# Altium integrated library Linear Technology Power Management System Supervisor, Monitor and Control.IntLib: 1611 symbols (part 14 of 100)
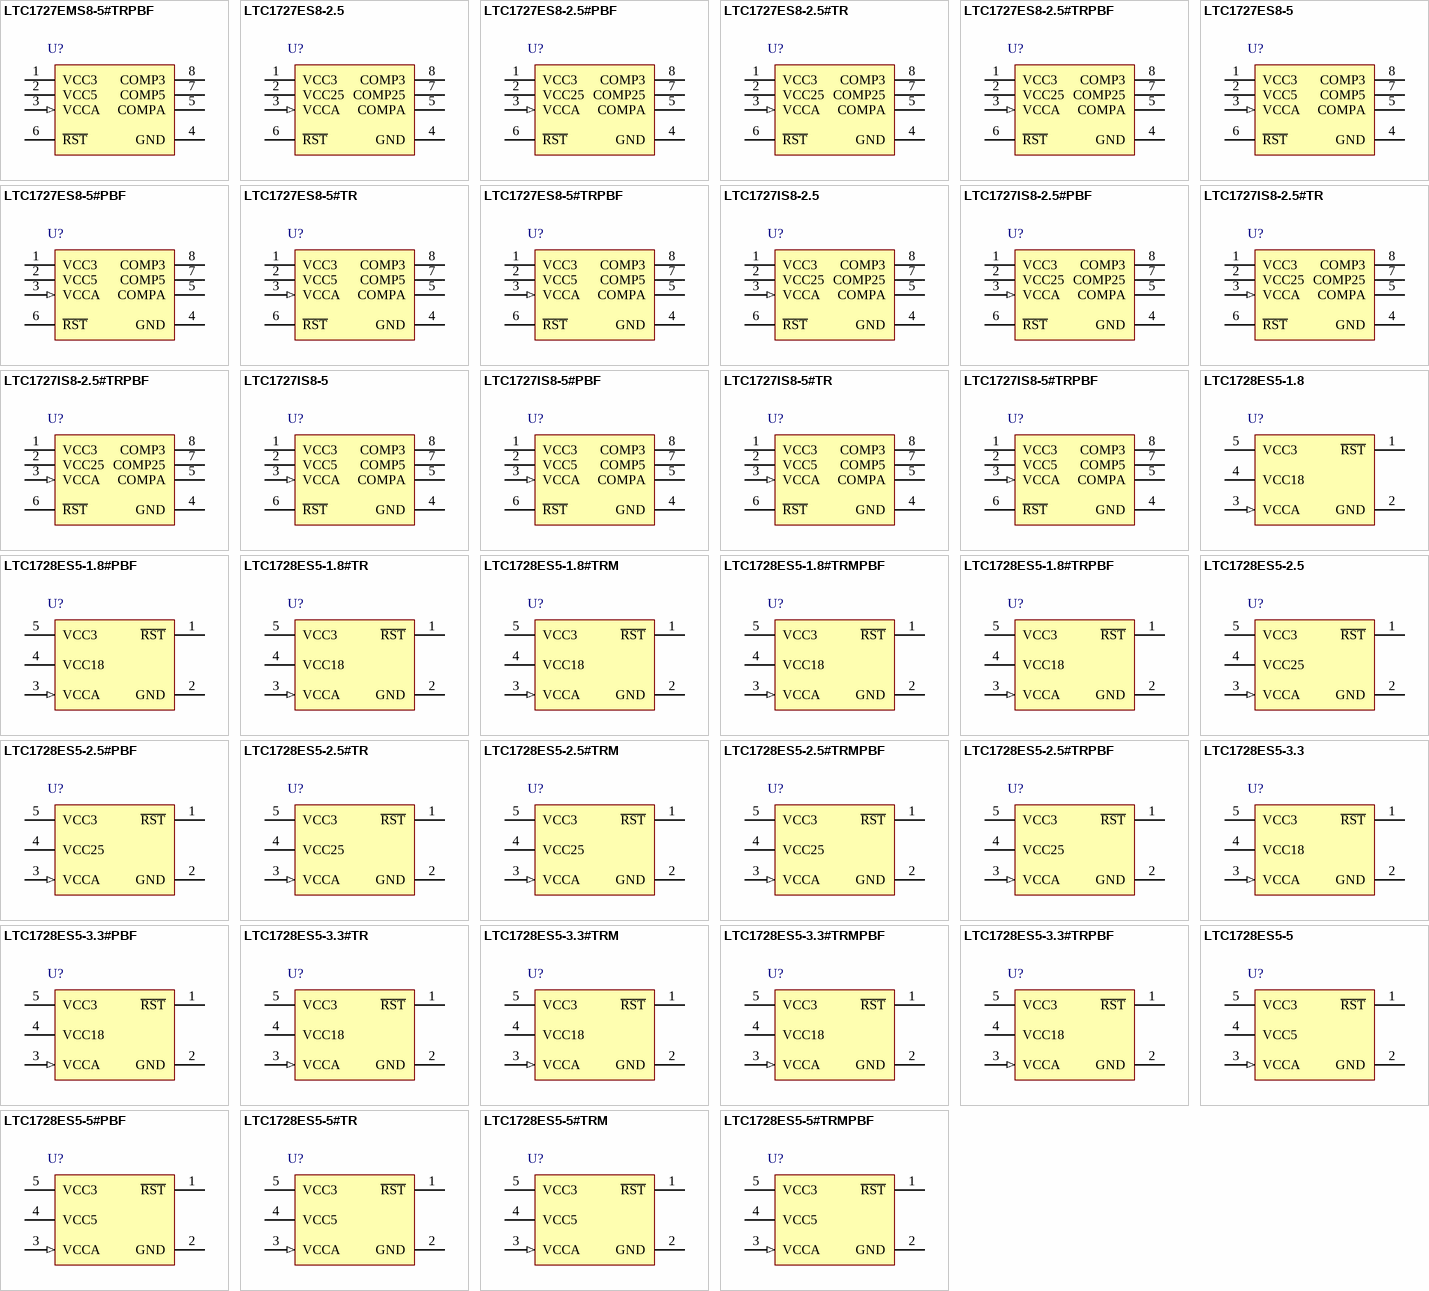
[diagram p58: symbols LTC1727EMS8-5#TRPBF to LTC1728ES5-5#TRMPBF]

## LTC1728ES5-1.8#TR
designator U?
Micropower Precision Triple Supply Monitor, 5-pin SOT23 (S5-5), -40 to 85 degC, Tape and Reel; Manufacturer: Linear Technology; PartNumber: LTC1728ES5-1.8#TR; Number of Supplies(#): 3; DatasheetVersion: Rev. B; PackageVersion: Aug-07; PackageReference: S5-5; PackageDescription: 5-Pin Plastic SOT-23, Body 1.625 x 2.90 mm, Pitch 0.95 mm; Supplier 1: Digi-Key; Supplier Part Number 1: LTC1728ES5-1.8#TR-ND; Packing: Tape and Reel; RoHS: FALSE; Mounting Technology: Surface Mount; ComponentLink1Description: Manufacturer URL; ComponentLink1URL: http://www.linear.com/; ComponentLink2Description: Datasheet; ComponentLink2URL: http://cds.linear.com/docs/en/datasheet/17278fb.pdf; ComponentLink3Description: Package Specification; ComponentLink3URL: http://cds.linear.com/docs/en/datasheet/17278fb.pdf
footprint LT-S5-5-SOT-23_N (SOT23, 5-Leads, Body 3x1.75mm, Pitch 0.95mm, IPC Medium Density)
footprint LT-S5-5-SOT-23_L (SOT23, 5-Leads, Body 3x1.75mm, Pitch 0.95mm, IPC High Density)
footprint LT-S5-5-SOT-23_M (SOT23, 5-Leads, Body 3x1.75mm, Pitch 0.95mm, IPC Low Density)
pins: 1 ~{RST} (oc) "Reset Logic Output. Active low, opendrain logic output with weak pull-up to VCC3. Can be pulled up greater than VCC3 when interfacing to 5V logic. Asserted when one or all of the supplies are below trip thresholds and held (See Datasheet)", 2 GND (power) "Ground.", 3 VCCA (in) "1V Sense, High Impedance Input. If unused,it can be tied to either VCC3 or VCC5/VCC25/VCC18.", 4 VCC18 (power) "1.8V Sense Input and Power Supply Pin. This pin is used on the LTC1728-1.8/LTC1728?3.3 to provide power to the part when the voltage on VCC18 is greater than the voltage on VCC3. Bypass to ground with a >= 0.1uF ceramic (See Datasheet)", 5 VCC3 (power) "3.3V Sense Input and Power Supply Pin. (3V Sense Input and Power Supply Pin for LTC1728-1.8.) This pin provides power to the part when the voltage on VCC3 is greater than the voltage on VCC5/VCC25/VCC18.Bypass to ground with (See Datasheet)"

## LTC1728ES5-1.8#TRM
designator U?
Micropower Precision Triple Supply Monitor, 5-pin SOT23 (S5-5), -40 to 85 degC, Mini Tape and Reel; Manufacturer: Linear Technology; PartNumber: LTC1728ES5-1.8#TRM; Number of Supplies(#): 3; DatasheetVersion: Rev. B; PackageVersion: Aug-07; PackageReference: S5-5; PackageDescription: 5-Pin Plastic SOT-23, Body 1.625 x 2.90 mm, Pitch 0.95 mm; Supplier 1: Digi-Key; Supplier Part Number 1: LTC1728ES5-1.8#TRM-ND; Packing: Mini Tape and Reel; RoHS: FALSE; Mounting Technology: Surface Mount; ComponentLink1Description: Manufacturer URL; ComponentLink1URL: http://www.linear.com/; ComponentLink2Description: Datasheet; ComponentLink2URL: http://cds.linear.com/docs/en/datasheet/17278fb.pdf; ComponentLink3Description: Package Specification; ComponentLink3URL: http://cds.linear.com/docs/en/datasheet/17278fb.pdf
footprint LT-S5-5-SOT-23_N (SOT23, 5-Leads, Body 3x1.75mm, Pitch 0.95mm, IPC Medium Density)
footprint LT-S5-5-SOT-23_L (SOT23, 5-Leads, Body 3x1.75mm, Pitch 0.95mm, IPC High Density)
footprint LT-S5-5-SOT-23_M (SOT23, 5-Leads, Body 3x1.75mm, Pitch 0.95mm, IPC Low Density)
pins: 1 ~{RST} (oc) "Reset Logic Output. Active low, opendrain logic output with weak pull-up to VCC3. Can be pulled up greater than VCC3 when interfacing to 5V logic. Asserted when one or all of the supplies are below trip thresholds and held (See Datasheet)", 2 GND (power) "Ground.", 3 VCCA (in) "1V Sense, High Impedance Input. If unused,it can be tied to either VCC3 or VCC5/VCC25/VCC18.", 4 VCC18 (power) "1.8V Sense Input and Power Supply Pin. This pin is used on the LTC1728-1.8/LTC1728?3.3 to provide power to the part when the voltage on VCC18 is greater than the voltage on VCC3. Bypass to ground with a >= 0.1uF ceramic (See Datasheet)", 5 VCC3 (power) "3.3V Sense Input and Power Supply Pin. (3V Sense Input and Power Supply Pin for LTC1728-1.8.) This pin provides power to the part when the voltage on VCC3 is greater than the voltage on VCC5/VCC25/VCC18.Bypass to ground with (See Datasheet)"

## LTC1728ES5-1.8#TRMPBF
designator U?
Micropower Precision Triple Supply Monitor, 5-pin SOT23 (S5-5), -40 to 85 degC, Pb-Free, Mini Tape and Reel; Manufacturer: Linear Technology; PartNumber: LTC1728ES5-1.8#TRMPBF; Number of Supplies(#): 3; DatasheetVersion: Rev. B; PackageVersion: Aug-07; PackageReference: S5-5; PackageDescription: 5-Pin Plastic SOT-23, Body 1.625 x 2.90 mm, Pitch 0.95 mm; Supplier 1: Digi-Key; Supplier Part Number 1: LTC1728ES5-1.8#TRMPBFTR-ND; Supplier 2: Digi-Key; Supplier Part Number 2: LTC1728ES5-1.8#TRMPBFCT-ND; Supplier 3: Digi-Key; Supplier Part Number 3: LTC1728ES5-1.8#TRMPBFDKR-ND; Packing: Mini Tape and Reel; RoHS: TRUE; Mounting Technology: Surface Mount; ComponentLink1Description: Manufacturer URL; ComponentLink1URL: http://www.linear.com/; ComponentLink2Description: Datasheet; ComponentLink2URL: http://cds.linear.com/docs/en/datasheet/17278fb.pdf; ComponentLink3Description: Package Specification; ComponentLink3URL: http://cds.linear.com/docs/en/datasheet/17278fb.pdf
footprint LT-S5-5-SOT-23_N (SOT23, 5-Leads, Body 3x1.75mm, Pitch 0.95mm, IPC Medium Density)
footprint LT-S5-5-SOT-23_L (SOT23, 5-Leads, Body 3x1.75mm, Pitch 0.95mm, IPC High Density)
footprint LT-S5-5-SOT-23_M (SOT23, 5-Leads, Body 3x1.75mm, Pitch 0.95mm, IPC Low Density)
pins: 1 ~{RST} (oc) "Reset Logic Output. Active low, opendrain logic output with weak pull-up to VCC3. Can be pulled up greater than VCC3 when interfacing to 5V logic. Asserted when one or all of the supplies are below trip thresholds and held (See Datasheet)", 2 GND (power) "Ground.", 3 VCCA (in) "1V Sense, High Impedance Input. If unused,it can be tied to either VCC3 or VCC5/VCC25/VCC18.", 4 VCC18 (power) "1.8V Sense Input and Power Supply Pin. This pin is used on the LTC1728-1.8/LTC1728?3.3 to provide power to the part when the voltage on VCC18 is greater than the voltage on VCC3. Bypass to ground with a >= 0.1uF ceramic (See Datasheet)", 5 VCC3 (power) "3.3V Sense Input and Power Supply Pin. (3V Sense Input and Power Supply Pin for LTC1728-1.8.) This pin provides power to the part when the voltage on VCC3 is greater than the voltage on VCC5/VCC25/VCC18.Bypass to ground with (See Datasheet)"

## LTC1728ES5-1.8#TRPBF
designator U?
Micropower Precision Triple Supply Monitor, 5-pin SOT23 (S5-5), -40 to 85 degC, Pb-Free, Tape and Reel; Manufacturer: Linear Technology; PartNumber: LTC1728ES5-1.8#TRPBF; Number of Supplies(#): 3; DatasheetVersion: Rev. B; PackageVersion: Aug-07; PackageReference: S5-5; PackageDescription: 5-Pin Plastic SOT-23, Body 1.625 x 2.90 mm, Pitch 0.95 mm; Supplier 1: Digi-Key; Supplier Part Number 1: LTC1728ES5-1.8#TRPBF-ND; Packing: Tape and Reel; RoHS: TRUE; Mounting Technology: Surface Mount; ComponentLink1Description: Manufacturer URL; ComponentLink1URL: http://www.linear.com/; ComponentLink2Description: Datasheet; ComponentLink2URL: http://cds.linear.com/docs/en/datasheet/17278fb.pdf; ComponentLink3Description: Package Specification; ComponentLink3URL: http://cds.linear.com/docs/en/datasheet/17278fb.pdf
footprint LT-S5-5-SOT-23_N (SOT23, 5-Leads, Body 3x1.75mm, Pitch 0.95mm, IPC Medium Density)
footprint LT-S5-5-SOT-23_L (SOT23, 5-Leads, Body 3x1.75mm, Pitch 0.95mm, IPC High Density)
footprint LT-S5-5-SOT-23_M (SOT23, 5-Leads, Body 3x1.75mm, Pitch 0.95mm, IPC Low Density)
pins: 1 ~{RST} (oc) "Reset Logic Output. Active low, opendrain logic output with weak pull-up to VCC3. Can be pulled up greater than VCC3 when interfacing to 5V logic. Asserted when one or all of the supplies are below trip thresholds and held (See Datasheet)", 2 GND (power) "Ground.", 3 VCCA (in) "1V Sense, High Impedance Input. If unused,it can be tied to either VCC3 or VCC5/VCC25/VCC18.", 4 VCC18 (power) "1.8V Sense Input and Power Supply Pin. This pin is used on the LTC1728-1.8/LTC1728?3.3 to provide power to the part when the voltage on VCC18 is greater than the voltage on VCC3. Bypass to ground with a >= 0.1uF ceramic (See Datasheet)", 5 VCC3 (power) "3.3V Sense Input and Power Supply Pin. (3V Sense Input and Power Supply Pin for LTC1728-1.8.) This pin provides power to the part when the voltage on VCC3 is greater than the voltage on VCC5/VCC25/VCC18.Bypass to ground with (See Datasheet)"

## LTC1728ES5-2.5
designator U?
Micropower Precision Triple Supply Monitor, 5-pin SOT23 (S5-5), -40 to 85 degC; Manufacturer: Linear Technology; PartNumber: LTC1728ES5-2.5; Number of Supplies(#): 3; DatasheetVersion: Rev. B; PackageVersion: Aug-07; PackageReference: S5-5; PackageDescription: 5-Pin Plastic SOT-23, Body 1.625 x 2.90 mm, Pitch 0.95 mm; RoHS: FALSE; Mounting Technology: Surface Mount; ComponentLink1Description: Manufacturer URL; ComponentLink1URL: http://www.linear.com/; ComponentLink2Description: Datasheet; ComponentLink2URL: http://cds.linear.com/docs/en/datasheet/17278fb.pdf; ComponentLink3Description: Package Specification; ComponentLink3URL: http://cds.linear.com/docs/en/datasheet/17278fb.pdf
footprint LT-S5-5-SOT-23_N (SOT23, 5-Leads, Body 3x1.75mm, Pitch 0.95mm, IPC Medium Density)
footprint LT-S5-5-SOT-23_L (SOT23, 5-Leads, Body 3x1.75mm, Pitch 0.95mm, IPC High Density)
footprint LT-S5-5-SOT-23_M (SOT23, 5-Leads, Body 3x1.75mm, Pitch 0.95mm, IPC Low Density)
pins: 1 ~{RST} (oc) "Reset Logic Output. Active low, opendrain logic output with weak pull-up to VCC3. Can be pulled up greater than VCC3 when interfacing to 5V logic. Asserted when one or all of the supplies are below trip thresholds and held (See Datasheet)", 2 GND (power) "Ground.", 3 VCCA (in) "1V Sense, High Impedance Input. If unused,it can be tied to either VCC3 or VCC5/VCC25/VCC18.", 4 VCC25 (power) "2.5V Sense Input and Power Supply Pin. This pin is used on the LTC1727-2.5/LTC1728-2.5 to provide power to the part when the voltage on VCC25 is greater than the voltage on VCC3. Bypass to ground with a >=0.1uF ceramic (See Datasheet)", 5 VCC3 (power) "3.3V Sense Input and Power Supply Pin. (3V Sense Input and Power Supply Pin for LTC1728-1.8.) This pin provides power to the part when the voltage on VCC3 is greater than the voltage on VCC5/VCC25/VCC18.Bypass to ground with (See Datasheet)"

## LTC1728ES5-2.5#PBF
designator U?
Micropower Precision Triple Supply Monitor, 5-pin SOT23 (S5-5), -40 to 85 degC, Pb-Free; Manufacturer: Linear Technology; PartNumber: LTC1728ES5-2.5#PBF; Number of Supplies(#): 3; DatasheetVersion: Rev. B; PackageVersion: Aug-07; PackageReference: S5-5; PackageDescription: 5-Pin Plastic SOT-23, Body 1.625 x 2.90 mm, Pitch 0.95 mm; Supplier 1: Farnell; Supplier Part Number 1: 2102603; Supplier 2: Newark; Supplier Part Number 2: 79R1605; RoHS: TRUE; Mounting Technology: Surface Mount; ComponentLink1Description: Manufacturer URL; ComponentLink1URL: http://www.linear.com/; ComponentLink2Description: Datasheet; ComponentLink2URL: http://cds.linear.com/docs/en/datasheet/17278fb.pdf; ComponentLink3Description: Package Specification; ComponentLink3URL: http://cds.linear.com/docs/en/datasheet/17278fb.pdf
footprint LT-S5-5-SOT-23_N (SOT23, 5-Leads, Body 3x1.75mm, Pitch 0.95mm, IPC Medium Density)
footprint LT-S5-5-SOT-23_L (SOT23, 5-Leads, Body 3x1.75mm, Pitch 0.95mm, IPC High Density)
footprint LT-S5-5-SOT-23_M (SOT23, 5-Leads, Body 3x1.75mm, Pitch 0.95mm, IPC Low Density)
pins: 1 ~{RST} (oc) "Reset Logic Output. Active low, opendrain logic output with weak pull-up to VCC3. Can be pulled up greater than VCC3 when interfacing to 5V logic. Asserted when one or all of the supplies are below trip thresholds and held (See Datasheet)", 2 GND (power) "Ground.", 3 VCCA (in) "1V Sense, High Impedance Input. If unused,it can be tied to either VCC3 or VCC5/VCC25/VCC18.", 4 VCC25 (power) "2.5V Sense Input and Power Supply Pin. This pin is used on the LTC1727-2.5/LTC1728-2.5 to provide power to the part when the voltage on VCC25 is greater than the voltage on VCC3. Bypass to ground with a >=0.1uF ceramic (See Datasheet)", 5 VCC3 (power) "3.3V Sense Input and Power Supply Pin. (3V Sense Input and Power Supply Pin for LTC1728-1.8.) This pin provides power to the part when the voltage on VCC3 is greater than the voltage on VCC5/VCC25/VCC18.Bypass to ground with (See Datasheet)"

## LTC1728ES5-2.5#TR
designator U?
Micropower Precision Triple Supply Monitor, 5-pin SOT23 (S5-5), -40 to 85 degC, Tape and Reel; Manufacturer: Linear Technology; PartNumber: LTC1728ES5-2.5#TR; Number of Supplies(#): 3; DatasheetVersion: Rev. B; PackageVersion: Aug-07; PackageReference: S5-5; PackageDescription: 5-Pin Plastic SOT-23, Body 1.625 x 2.90 mm, Pitch 0.95 mm; Supplier 1: Digi-Key; Supplier Part Number 1: LTC1728ES5-2.5#TR-ND; Packing: Tape and Reel; RoHS: FALSE; Mounting Technology: Surface Mount; ComponentLink1Description: Manufacturer URL; ComponentLink1URL: http://www.linear.com/; ComponentLink2Description: Datasheet; ComponentLink2URL: http://cds.linear.com/docs/en/datasheet/17278fb.pdf; ComponentLink3Description: Package Specification; ComponentLink3URL: http://cds.linear.com/docs/en/datasheet/17278fb.pdf
footprint LT-S5-5-SOT-23_N (SOT23, 5-Leads, Body 3x1.75mm, Pitch 0.95mm, IPC Medium Density)
footprint LT-S5-5-SOT-23_L (SOT23, 5-Leads, Body 3x1.75mm, Pitch 0.95mm, IPC High Density)
footprint LT-S5-5-SOT-23_M (SOT23, 5-Leads, Body 3x1.75mm, Pitch 0.95mm, IPC Low Density)
pins: 1 ~{RST} (oc) "Reset Logic Output. Active low, opendrain logic output with weak pull-up to VCC3. Can be pulled up greater than VCC3 when interfacing to 5V logic. Asserted when one or all of the supplies are below trip thresholds and held (See Datasheet)", 2 GND (power) "Ground.", 3 VCCA (in) "1V Sense, High Impedance Input. If unused,it can be tied to either VCC3 or VCC5/VCC25/VCC18.", 4 VCC25 (power) "2.5V Sense Input and Power Supply Pin. This pin is used on the LTC1727-2.5/LTC1728-2.5 to provide power to the part when the voltage on VCC25 is greater than the voltage on VCC3. Bypass to ground with a >=0.1uF ceramic (See Datasheet)", 5 VCC3 (power) "3.3V Sense Input and Power Supply Pin. (3V Sense Input and Power Supply Pin for LTC1728-1.8.) This pin provides power to the part when the voltage on VCC3 is greater than the voltage on VCC5/VCC25/VCC18.Bypass to ground with (See Datasheet)"

## LTC1728ES5-2.5#TRM
designator U?
Micropower Precision Triple Supply Monitor, 5-pin SOT23 (S5-5), -40 to 85 degC, Mini Tape and Reel; Manufacturer: Linear Technology; PartNumber: LTC1728ES5-2.5#TRM; Number of Supplies(#): 3; DatasheetVersion: Rev. B; PackageVersion: Aug-07; PackageReference: S5-5; PackageDescription: 5-Pin Plastic SOT-23, Body 1.625 x 2.90 mm, Pitch 0.95 mm; Supplier 1: Digi-Key; Supplier Part Number 1: LTC1728ES5-2.5#TRM-ND; Packing: Mini Tape and Reel; RoHS: FALSE; Mounting Technology: Surface Mount; ComponentLink1Description: Manufacturer URL; ComponentLink1URL: http://www.linear.com/; ComponentLink2Description: Datasheet; ComponentLink2URL: http://cds.linear.com/docs/en/datasheet/17278fb.pdf; ComponentLink3Description: Package Specification; ComponentLink3URL: http://cds.linear.com/docs/en/datasheet/17278fb.pdf
footprint LT-S5-5-SOT-23_N (SOT23, 5-Leads, Body 3x1.75mm, Pitch 0.95mm, IPC Medium Density)
footprint LT-S5-5-SOT-23_L (SOT23, 5-Leads, Body 3x1.75mm, Pitch 0.95mm, IPC High Density)
footprint LT-S5-5-SOT-23_M (SOT23, 5-Leads, Body 3x1.75mm, Pitch 0.95mm, IPC Low Density)
pins: 1 ~{RST} (oc) "Reset Logic Output. Active low, opendrain logic output with weak pull-up to VCC3. Can be pulled up greater than VCC3 when interfacing to 5V logic. Asserted when one or all of the supplies are below trip thresholds and held (See Datasheet)", 2 GND (power) "Ground.", 3 VCCA (in) "1V Sense, High Impedance Input. If unused,it can be tied to either VCC3 or VCC5/VCC25/VCC18.", 4 VCC25 (power) "2.5V Sense Input and Power Supply Pin. This pin is used on the LTC1727-2.5/LTC1728-2.5 to provide power to the part when the voltage on VCC25 is greater than the voltage on VCC3. Bypass to ground with a >=0.1uF ceramic (See Datasheet)", 5 VCC3 (power) "3.3V Sense Input and Power Supply Pin. (3V Sense Input and Power Supply Pin for LTC1728-1.8.) This pin provides power to the part when the voltage on VCC3 is greater than the voltage on VCC5/VCC25/VCC18.Bypass to ground with (See Datasheet)"

## LTC1728ES5-2.5#TRMPBF
designator U?
Micropower Precision Triple Supply Monitor, 5-pin SOT23 (S5-5), -40 to 85 degC, Pb-Free, Mini Tape and Reel; Manufacturer: Linear Technology; PartNumber: LTC1728ES5-2.5#TRMPBF; Number of Supplies(#): 3; DatasheetVersion: Rev. B; PackageVersion: Aug-07; PackageReference: S5-5; PackageDescription: 5-Pin Plastic SOT-23, Body 1.625 x 2.90 mm, Pitch 0.95 mm; Supplier 1: Digi-Key; Supplier Part Number 1: LTC1728ES5-2.5#TRMPBFTR-ND; Supplier 2: Digi-Key; Supplier Part Number 2: LTC1728ES5-2.5#TRMPBFCT-ND; Supplier 3: Digi-Key; Supplier Part Number 3: LTC1728ES5-2.5#TRMPBFDKR-ND; Supplier 4: Farnell; Supplier Part Number 4: 1514986; Supplier 5: Newark; Supplier Part Number 5: 59M8267; Supplier 6: Newark; Supplier Part Number 6: 56M3495; Packing: Mini Tape and Reel; RoHS: TRUE; Mounting Technology: Surface Mount; ComponentLink1Description: Manufacturer URL; ComponentLink1URL: http://www.linear.com/; ComponentLink2Description: Datasheet; ComponentLink2URL: http://cds.linear.com/docs/en/datasheet/17278fb.pdf; ComponentLink3Description: Package Specification; ComponentLink3URL: http://cds.linear.com/docs/en/datasheet/17278fb.pdf
footprint LT-S5-5-SOT-23_N (SOT23, 5-Leads, Body 3x1.75mm, Pitch 0.95mm, IPC Medium Density)
footprint LT-S5-5-SOT-23_L (SOT23, 5-Leads, Body 3x1.75mm, Pitch 0.95mm, IPC High Density)
footprint LT-S5-5-SOT-23_M (SOT23, 5-Leads, Body 3x1.75mm, Pitch 0.95mm, IPC Low Density)
pins: 1 ~{RST} (oc) "Reset Logic Output. Active low, opendrain logic output with weak pull-up to VCC3. Can be pulled up greater than VCC3 when interfacing to 5V logic. Asserted when one or all of the supplies are below trip thresholds and held (See Datasheet)", 2 GND (power) "Ground.", 3 VCCA (in) "1V Sense, High Impedance Input. If unused,it can be tied to either VCC3 or VCC5/VCC25/VCC18.", 4 VCC25 (power) "2.5V Sense Input and Power Supply Pin. This pin is used on the LTC1727-2.5/LTC1728-2.5 to provide power to the part when the voltage on VCC25 is greater than the voltage on VCC3. Bypass to ground with a >=0.1uF ceramic (See Datasheet)", 5 VCC3 (power) "3.3V Sense Input and Power Supply Pin. (3V Sense Input and Power Supply Pin for LTC1728-1.8.) This pin provides power to the part when the voltage on VCC3 is greater than the voltage on VCC5/VCC25/VCC18.Bypass to ground with (See Datasheet)"

## LTC1728ES5-2.5#TRPBF
designator U?
Micropower Precision Triple Supply Monitor, 5-pin SOT23 (S5-5), -40 to 85 degC, Pb-Free, Tape and Reel; Manufacturer: Linear Technology; PartNumber: LTC1728ES5-2.5#TRPBF; Number of Supplies(#): 3; DatasheetVersion: Rev. B; PackageVersion: Aug-07; PackageReference: S5-5; PackageDescription: 5-Pin Plastic SOT-23, Body 1.625 x 2.90 mm, Pitch 0.95 mm; Supplier 1: Digi-Key; Supplier Part Number 1: LTC1728ES5-2.5#TRPBF-ND; Supplier 2: Newark; Supplier Part Number 2: 56M3496; Packing: Tape and Reel; RoHS: TRUE; Mounting Technology: Surface Mount; ComponentLink1Description: Manufacturer URL; ComponentLink1URL: http://www.linear.com/; ComponentLink2Description: Datasheet; ComponentLink2URL: http://cds.linear.com/docs/en/datasheet/17278fb.pdf; ComponentLink3Description: Package Specification; ComponentLink3URL: http://cds.linear.com/docs/en/datasheet/17278fb.pdf
footprint LT-S5-5-SOT-23_N (SOT23, 5-Leads, Body 3x1.75mm, Pitch 0.95mm, IPC Medium Density)
footprint LT-S5-5-SOT-23_L (SOT23, 5-Leads, Body 3x1.75mm, Pitch 0.95mm, IPC High Density)
footprint LT-S5-5-SOT-23_M (SOT23, 5-Leads, Body 3x1.75mm, Pitch 0.95mm, IPC Low Density)
pins: 1 ~{RST} (oc) "Reset Logic Output. Active low, opendrain logic output with weak pull-up to VCC3. Can be pulled up greater than VCC3 when interfacing to 5V logic. Asserted when one or all of the supplies are below trip thresholds and held (See Datasheet)", 2 GND (power) "Ground.", 3 VCCA (in) "1V Sense, High Impedance Input. If unused,it can be tied to either VCC3 or VCC5/VCC25/VCC18.", 4 VCC25 (power) "2.5V Sense Input and Power Supply Pin. This pin is used on the LTC1727-2.5/LTC1728-2.5 to provide power to the part when the voltage on VCC25 is greater than the voltage on VCC3. Bypass to ground with a >=0.1uF ceramic (See Datasheet)", 5 VCC3 (power) "3.3V Sense Input and Power Supply Pin. (3V Sense Input and Power Supply Pin for LTC1728-1.8.) This pin provides power to the part when the voltage on VCC3 is greater than the voltage on VCC5/VCC25/VCC18.Bypass to ground with (See Datasheet)"

## LTC1728ES5-3.3
designator U?
Micropower Precision Triple Supply Monitor, 5-pin SOT23 (S5-5), -40 to 85 degC; Manufacturer: Linear Technology; PartNumber: LTC1728ES5-3.3; Number of Supplies(#): 3; DatasheetVersion: Rev. B; PackageVersion: Aug-07; PackageReference: S5-5; PackageDescription: 5-Pin Plastic SOT-23, Body 1.625 x 2.90 mm, Pitch 0.95 mm; RoHS: FALSE; Mounting Technology: Surface Mount; ComponentLink1Description: Manufacturer URL; ComponentLink1URL: http://www.linear.com/; ComponentLink2Description: Datasheet; ComponentLink2URL: http://cds.linear.com/docs/en/datasheet/17278fb.pdf; ComponentLink3Description: Package Specification; ComponentLink3URL: http://cds.linear.com/docs/en/datasheet/17278fb.pdf
footprint LT-S5-5-SOT-23_N (SOT23, 5-Leads, Body 3x1.75mm, Pitch 0.95mm, IPC Medium Density)
footprint LT-S5-5-SOT-23_L (SOT23, 5-Leads, Body 3x1.75mm, Pitch 0.95mm, IPC High Density)
footprint LT-S5-5-SOT-23_M (SOT23, 5-Leads, Body 3x1.75mm, Pitch 0.95mm, IPC Low Density)
pins: 1 ~{RST} (oc) "Reset Logic Output. Active low, opendrain logic output with weak pull-up to VCC3. Can be pulled up greater than VCC3 when interfacing to 5V logic. Asserted when one or all of the supplies are below trip thresholds and held (See Datasheet)", 2 GND (power) "Ground.", 3 VCCA (in) "1V Sense, High Impedance Input. If unused,it can be tied to either VCC3 or VCC5/VCC25/VCC18.", 4 VCC18 (power) "1.8V Sense Input and Power Supply Pin. This pin is used on the LTC1728-1.8/LTC1728?3.3 to provide power to the part when the voltage on VCC18 is greater than the voltage on VCC3. Bypass to ground with a >= 0.1uF ceramic (See Datasheet)", 5 VCC3 (power) "3.3V Sense Input and Power Supply Pin. (3V Sense Input and Power Supply Pin for LTC1728-1.8.) This pin provides power to the part when the voltage on VCC3 is greater than the voltage on VCC5/VCC25/VCC18.Bypass to ground with (See Datasheet)"

## LTC1728ES5-3.3#PBF
designator U?
Micropower Precision Triple Supply Monitor, 5-pin SOT23 (S5-5), -40 to 85 degC, Pb-Free; Manufacturer: Linear Technology; PartNumber: LTC1728ES5-3.3#PBF; Number of Supplies(#): 3; DatasheetVersion: Rev. B; PackageVersion: Aug-07; PackageReference: S5-5; PackageDescription: 5-Pin Plastic SOT-23, Body 1.625 x 2.90 mm, Pitch 0.95 mm; Supplier 1: Farnell; Supplier Part Number 1: 2308094; Supplier 2: Newark; Supplier Part Number 2: 78T2514; RoHS: TRUE; Mounting Technology: Surface Mount; ComponentLink1Description: Manufacturer URL; ComponentLink1URL: http://www.linear.com/; ComponentLink2Description: Datasheet; ComponentLink2URL: http://cds.linear.com/docs/en/datasheet/17278fb.pdf; ComponentLink3Description: Package Specification; ComponentLink3URL: http://cds.linear.com/docs/en/datasheet/17278fb.pdf
footprint LT-S5-5-SOT-23_N (SOT23, 5-Leads, Body 3x1.75mm, Pitch 0.95mm, IPC Medium Density)
footprint LT-S5-5-SOT-23_L (SOT23, 5-Leads, Body 3x1.75mm, Pitch 0.95mm, IPC High Density)
footprint LT-S5-5-SOT-23_M (SOT23, 5-Leads, Body 3x1.75mm, Pitch 0.95mm, IPC Low Density)
pins: 1 ~{RST} (oc) "Reset Logic Output. Active low, opendrain logic output with weak pull-up to VCC3. Can be pulled up greater than VCC3 when interfacing to 5V logic. Asserted when one or all of the supplies are below trip thresholds and held (See Datasheet)", 2 GND (power) "Ground.", 3 VCCA (in) "1V Sense, High Impedance Input. If unused,it can be tied to either VCC3 or VCC5/VCC25/VCC18.", 4 VCC18 (power) "1.8V Sense Input and Power Supply Pin. This pin is used on the LTC1728-1.8/LTC1728?3.3 to provide power to the part when the voltage on VCC18 is greater than the voltage on VCC3. Bypass to ground with a >= 0.1uF ceramic (See Datasheet)", 5 VCC3 (power) "3.3V Sense Input and Power Supply Pin. (3V Sense Input and Power Supply Pin for LTC1728-1.8.) This pin provides power to the part when the voltage on VCC3 is greater than the voltage on VCC5/VCC25/VCC18.Bypass to ground with (See Datasheet)"

## LTC1728ES5-3.3#TR
designator U?
Micropower Precision Triple Supply Monitor, 5-pin SOT23 (S5-5), -40 to 85 degC, Tape and Reel; Manufacturer: Linear Technology; PartNumber: LTC1728ES5-3.3#TR; Number of Supplies(#): 3; DatasheetVersion: Rev. B; PackageVersion: Aug-07; PackageReference: S5-5; PackageDescription: 5-Pin Plastic SOT-23, Body 1.625 x 2.90 mm, Pitch 0.95 mm; Supplier 1: Digi-Key; Supplier Part Number 1: LTC1728ES5-3.3TR-ND; Packing: Tape and Reel; RoHS: FALSE; Mounting Technology: Surface Mount; ComponentLink1Description: Manufacturer URL; ComponentLink1URL: http://www.linear.com/; ComponentLink2Description: Datasheet; ComponentLink2URL: http://cds.linear.com/docs/en/datasheet/17278fb.pdf; ComponentLink3Description: Package Specification; ComponentLink3URL: http://cds.linear.com/docs/en/datasheet/17278fb.pdf
footprint LT-S5-5-SOT-23_N (SOT23, 5-Leads, Body 3x1.75mm, Pitch 0.95mm, IPC Medium Density)
footprint LT-S5-5-SOT-23_L (SOT23, 5-Leads, Body 3x1.75mm, Pitch 0.95mm, IPC High Density)
footprint LT-S5-5-SOT-23_M (SOT23, 5-Leads, Body 3x1.75mm, Pitch 0.95mm, IPC Low Density)
pins: 1 ~{RST} (oc) "Reset Logic Output. Active low, opendrain logic output with weak pull-up to VCC3. Can be pulled up greater than VCC3 when interfacing to 5V logic. Asserted when one or all of the supplies are below trip thresholds and held (See Datasheet)", 2 GND (power) "Ground.", 3 VCCA (in) "1V Sense, High Impedance Input. If unused,it can be tied to either VCC3 or VCC5/VCC25/VCC18.", 4 VCC18 (power) "1.8V Sense Input and Power Supply Pin. This pin is used on the LTC1728-1.8/LTC1728?3.3 to provide power to the part when the voltage on VCC18 is greater than the voltage on VCC3. Bypass to ground with a >= 0.1uF ceramic (See Datasheet)", 5 VCC3 (power) "3.3V Sense Input and Power Supply Pin. (3V Sense Input and Power Supply Pin for LTC1728-1.8.) This pin provides power to the part when the voltage on VCC3 is greater than the voltage on VCC5/VCC25/VCC18.Bypass to ground with (See Datasheet)"

## LTC1728ES5-3.3#TRM
designator U?
Micropower Precision Triple Supply Monitor, 5-pin SOT23 (S5-5), -40 to 85 degC, Mini Tape and Reel; Manufacturer: Linear Technology; PartNumber: LTC1728ES5-3.3#TRM; Number of Supplies(#): 3; DatasheetVersion: Rev. B; PackageVersion: Aug-07; PackageReference: S5-5; PackageDescription: 5-Pin Plastic SOT-23, Body 1.625 x 2.90 mm, Pitch 0.95 mm; Supplier 1: Digi-Key; Supplier Part Number 1: LTC1728ES5-3.3#TRMTR-ND; Supplier 2: Digi-Key; Supplier Part Number 2: LTC1728ES5-3.3#TRMCT-ND; Packing: Mini Tape and Reel; RoHS: FALSE; Mounting Technology: Surface Mount; ComponentLink1Description: Manufacturer URL; ComponentLink1URL: http://www.linear.com/; ComponentLink2Description: Datasheet; ComponentLink2URL: http://cds.linear.com/docs/en/datasheet/17278fb.pdf; ComponentLink3Description: Package Specification; ComponentLink3URL: http://cds.linear.com/docs/en/datasheet/17278fb.pdf
footprint LT-S5-5-SOT-23_N (SOT23, 5-Leads, Body 3x1.75mm, Pitch 0.95mm, IPC Medium Density)
footprint LT-S5-5-SOT-23_L (SOT23, 5-Leads, Body 3x1.75mm, Pitch 0.95mm, IPC High Density)
footprint LT-S5-5-SOT-23_M (SOT23, 5-Leads, Body 3x1.75mm, Pitch 0.95mm, IPC Low Density)
pins: 1 ~{RST} (oc) "Reset Logic Output. Active low, opendrain logic output with weak pull-up to VCC3. Can be pulled up greater than VCC3 when interfacing to 5V logic. Asserted when one or all of the supplies are below trip thresholds and held (See Datasheet)", 2 GND (power) "Ground.", 3 VCCA (in) "1V Sense, High Impedance Input. If unused,it can be tied to either VCC3 or VCC5/VCC25/VCC18.", 4 VCC18 (power) "1.8V Sense Input and Power Supply Pin. This pin is used on the LTC1728-1.8/LTC1728?3.3 to provide power to the part when the voltage on VCC18 is greater than the voltage on VCC3. Bypass to ground with a >= 0.1uF ceramic (See Datasheet)", 5 VCC3 (power) "3.3V Sense Input and Power Supply Pin. (3V Sense Input and Power Supply Pin for LTC1728-1.8.) This pin provides power to the part when the voltage on VCC3 is greater than the voltage on VCC5/VCC25/VCC18.Bypass to ground with (See Datasheet)"

## LTC1728ES5-3.3#TRMPBF
designator U?
Micropower Precision Triple Supply Monitor, 5-pin SOT23 (S5-5), -40 to 85 degC, Pb-Free, Mini Tape and Reel; Manufacturer: Linear Technology; PartNumber: LTC1728ES5-3.3#TRMPBF; Number of Supplies(#): 3; DatasheetVersion: Rev. B; PackageVersion: Aug-07; PackageReference: S5-5; PackageDescription: 5-Pin Plastic SOT-23, Body 1.625 x 2.90 mm, Pitch 0.95 mm; Supplier 1: Digi-Key; Supplier Part Number 1: LTC1728ES5-3.3#TRMPBFTR-ND; Supplier 2: Digi-Key; Supplier Part Number 2: LTC1728ES5-3.3#TRMPBFCT-ND; Supplier 3: Digi-Key; Supplier Part Number 3: LTC1728ES5-3.3#TRMPBFDKR-ND; Supplier 4: Farnell; Supplier Part Number 4: 1663856; Supplier 5: Farnell; Supplier Part Number 5: 1663856RL; Supplier 6: Newark; Supplier Part Number 6: 59M8268; Packing: Mini Tape and Reel; RoHS: TRUE; Mounting Technology: Surface Mount; ComponentLink1Description: Manufacturer URL; ComponentLink1URL: http://www.linear.com/; ComponentLink2Description: Datasheet; ComponentLink2URL: http://cds.linear.com/docs/en/datasheet/17278fb.pdf; ComponentLink3Description: Package Specification; ComponentLink3URL: http://cds.linear.com/docs/en/datasheet/17278fb.pdf
footprint LT-S5-5-SOT-23_N (SOT23, 5-Leads, Body 3x1.75mm, Pitch 0.95mm, IPC Medium Density)
footprint LT-S5-5-SOT-23_L (SOT23, 5-Leads, Body 3x1.75mm, Pitch 0.95mm, IPC High Density)
footprint LT-S5-5-SOT-23_M (SOT23, 5-Leads, Body 3x1.75mm, Pitch 0.95mm, IPC Low Density)
pins: 1 ~{RST} (oc) "Reset Logic Output. Active low, opendrain logic output with weak pull-up to VCC3. Can be pulled up greater than VCC3 when interfacing to 5V logic. Asserted when one or all of the supplies are below trip thresholds and held (See Datasheet)", 2 GND (power) "Ground.", 3 VCCA (in) "1V Sense, High Impedance Input. If unused,it can be tied to either VCC3 or VCC5/VCC25/VCC18.", 4 VCC18 (power) "1.8V Sense Input and Power Supply Pin. This pin is used on the LTC1728-1.8/LTC1728?3.3 to provide power to the part when the voltage on VCC18 is greater than the voltage on VCC3. Bypass to ground with a >= 0.1uF ceramic (See Datasheet)", 5 VCC3 (power) "3.3V Sense Input and Power Supply Pin. (3V Sense Input and Power Supply Pin for LTC1728-1.8.) This pin provides power to the part when the voltage on VCC3 is greater than the voltage on VCC5/VCC25/VCC18.Bypass to ground with (See Datasheet)"

## LTC1728ES5-3.3#TRPBF
designator U?
Micropower Precision Triple Supply Monitor, 5-pin SOT23 (S5-5), -40 to 85 degC, Pb-Free, Tape and Reel; Manufacturer: Linear Technology; PartNumber: LTC1728ES5-3.3#TRPBF; Number of Supplies(#): 3; DatasheetVersion: Rev. B; PackageVersion: Aug-07; PackageReference: S5-5; PackageDescription: 5-Pin Plastic SOT-23, Body 1.625 x 2.90 mm, Pitch 0.95 mm; Supplier 1: Digi-Key; Supplier Part Number 1: LTC1728ES5-3.3#TRPBF-ND; Supplier 2: Newark; Supplier Part Number 2: 56M3500; Packing: Tape and Reel; RoHS: TRUE; Mounting Technology: Surface Mount; ComponentLink1Description: Manufacturer URL; ComponentLink1URL: http://www.linear.com/; ComponentLink2Description: Datasheet; ComponentLink2URL: http://cds.linear.com/docs/en/datasheet/17278fb.pdf; ComponentLink3Description: Package Specification; ComponentLink3URL: http://cds.linear.com/docs/en/datasheet/17278fb.pdf
footprint LT-S5-5-SOT-23_N (SOT23, 5-Leads, Body 3x1.75mm, Pitch 0.95mm, IPC Medium Density)
footprint LT-S5-5-SOT-23_L (SOT23, 5-Leads, Body 3x1.75mm, Pitch 0.95mm, IPC High Density)
footprint LT-S5-5-SOT-23_M (SOT23, 5-Leads, Body 3x1.75mm, Pitch 0.95mm, IPC Low Density)
pins: 1 ~{RST} (oc) "Reset Logic Output. Active low, opendrain logic output with weak pull-up to VCC3. Can be pulled up greater than VCC3 when interfacing to 5V logic. Asserted when one or all of the supplies are below trip thresholds and held (See Datasheet)", 2 GND (power) "Ground.", 3 VCCA (in) "1V Sense, High Impedance Input. If unused,it can be tied to either VCC3 or VCC5/VCC25/VCC18.", 4 VCC18 (power) "1.8V Sense Input and Power Supply Pin. This pin is used on the LTC1728-1.8/LTC1728?3.3 to provide power to the part when the voltage on VCC18 is greater than the voltage on VCC3. Bypass to ground with a >= 0.1uF ceramic (See Datasheet)", 5 VCC3 (power) "3.3V Sense Input and Power Supply Pin. (3V Sense Input and Power Supply Pin for LTC1728-1.8.) This pin provides power to the part when the voltage on VCC3 is greater than the voltage on VCC5/VCC25/VCC18.Bypass to ground with (See Datasheet)"

## LTC1728ES5-5
designator U?
Micropower Precision Triple Supply Monitor, 5-pin SOT23 (S5-5), -40 to 85 degC; Manufacturer: Linear Technology; PartNumber: LTC1728ES5-5; Number of Supplies(#): 3; DatasheetVersion: Rev. B; PackageVersion: Aug-07; PackageReference: S5-5; PackageDescription: 5-Pin Plastic SOT-23, Body 1.625 x 2.90 mm, Pitch 0.95 mm; RoHS: FALSE; Mounting Technology: Surface Mount; ComponentLink1Description: Manufacturer URL; ComponentLink1URL: http://www.linear.com/; ComponentLink2Description: Datasheet; ComponentLink2URL: http://cds.linear.com/docs/en/datasheet/17278fb.pdf; ComponentLink3Description: Package Specification; ComponentLink3URL: http://cds.linear.com/docs/en/datasheet/17278fb.pdf
footprint LT-S5-5-SOT-23_N (SOT23, 5-Leads, Body 3x1.75mm, Pitch 0.95mm, IPC Medium Density)
footprint LT-S5-5-SOT-23_L (SOT23, 5-Leads, Body 3x1.75mm, Pitch 0.95mm, IPC High Density)
footprint LT-S5-5-SOT-23_M (SOT23, 5-Leads, Body 3x1.75mm, Pitch 0.95mm, IPC Low Density)
pins: 1 ~{RST} (oc) "Reset Logic Output. Active low, opendrain logic output with weak pull-up to VCC3. Can be pulled up greater than VCC3 when interfacing to 5V logic. Asserted when one or all of the supplies are below trip thresholds and held (See Datasheet)", 2 GND (power) "Ground.", 3 VCCA (in) "1V Sense, High Impedance Input. If unused,it can be tied to either VCC3 or VCC5/VCC25/VCC18.", 4 VCC5 (power) "5V Sense Input and Power Supply Pin.This pin is used on the LTC1727-5/LTC1728-5 to provide power to the part when the voltage on VCC5 is greater than the voltage on VCC3. Bypass to ground with a >=0.1uF ceramic capacitor.", 5 VCC3 (power) "3.3V Sense Input and Power Supply Pin. (3V Sense Input and Power Supply Pin for LTC1728-1.8.) This pin provides power to the part when the voltage on VCC3 is greater than the voltage on VCC5/VCC25/VCC18.Bypass to ground with (See Datasheet)"

## LTC1728ES5-5#PBF
designator U?
Micropower Precision Triple Supply Monitor, 5-pin SOT23 (S5-5), -40 to 85 degC, Pb-Free; Manufacturer: Linear Technology; PartNumber: LTC1728ES5-5#PBF; Number of Supplies(#): 3; DatasheetVersion: Rev. B; PackageVersion: Aug-07; PackageReference: S5-5; PackageDescription: 5-Pin Plastic SOT-23, Body 1.625 x 2.90 mm, Pitch 0.95 mm; Supplier 1: Newark; Supplier Part Number 1: 11R0377; RoHS: TRUE; Mounting Technology: Surface Mount; ComponentLink1Description: Manufacturer URL; ComponentLink1URL: http://www.linear.com/; ComponentLink2Description: Datasheet; ComponentLink2URL: http://cds.linear.com/docs/en/datasheet/17278fb.pdf; ComponentLink3Description: Package Specification; ComponentLink3URL: http://cds.linear.com/docs/en/datasheet/17278fb.pdf
footprint LT-S5-5-SOT-23_N (SOT23, 5-Leads, Body 3x1.75mm, Pitch 0.95mm, IPC Medium Density)
footprint LT-S5-5-SOT-23_L (SOT23, 5-Leads, Body 3x1.75mm, Pitch 0.95mm, IPC High Density)
footprint LT-S5-5-SOT-23_M (SOT23, 5-Leads, Body 3x1.75mm, Pitch 0.95mm, IPC Low Density)
pins: 1 ~{RST} (oc) "Reset Logic Output. Active low, opendrain logic output with weak pull-up to VCC3. Can be pulled up greater than VCC3 when interfacing to 5V logic. Asserted when one or all of the supplies are below trip thresholds and held (See Datasheet)", 2 GND (power) "Ground.", 3 VCCA (in) "1V Sense, High Impedance Input. If unused,it can be tied to either VCC3 or VCC5/VCC25/VCC18.", 4 VCC5 (power) "5V Sense Input and Power Supply Pin.This pin is used on the LTC1727-5/LTC1728-5 to provide power to the part when the voltage on VCC5 is greater than the voltage on VCC3. Bypass to ground with a >=0.1uF ceramic capacitor.", 5 VCC3 (power) "3.3V Sense Input and Power Supply Pin. (3V Sense Input and Power Supply Pin for LTC1728-1.8.) This pin provides power to the part when the voltage on VCC3 is greater than the voltage on VCC5/VCC25/VCC18.Bypass to ground with (See Datasheet)"

## LTC1728ES5-5#TR
designator U?
Micropower Precision Triple Supply Monitor, 5-pin SOT23 (S5-5), -40 to 85 degC, Tape and Reel; Manufacturer: Linear Technology; PartNumber: LTC1728ES5-5#TR; Number of Supplies(#): 3; DatasheetVersion: Rev. B; PackageVersion: Aug-07; PackageReference: S5-5; PackageDescription: 5-Pin Plastic SOT-23, Body 1.625 x 2.90 mm, Pitch 0.95 mm; Supplier 1: Digi-Key; Supplier Part Number 1: LTC1728ES5-5#TR-ND; Packing: Tape and Reel; RoHS: FALSE; Mounting Technology: Surface Mount; ComponentLink1Description: Manufacturer URL; ComponentLink1URL: http://www.linear.com/; ComponentLink2Description: Datasheet; ComponentLink2URL: http://cds.linear.com/docs/en/datasheet/17278fb.pdf; ComponentLink3Description: Package Specification; ComponentLink3URL: http://cds.linear.com/docs/en/datasheet/17278fb.pdf
footprint LT-S5-5-SOT-23_N (SOT23, 5-Leads, Body 3x1.75mm, Pitch 0.95mm, IPC Medium Density)
footprint LT-S5-5-SOT-23_L (SOT23, 5-Leads, Body 3x1.75mm, Pitch 0.95mm, IPC High Density)
footprint LT-S5-5-SOT-23_M (SOT23, 5-Leads, Body 3x1.75mm, Pitch 0.95mm, IPC Low Density)
pins: 1 ~{RST} (oc) "Reset Logic Output. Active low, opendrain logic output with weak pull-up to VCC3. Can be pulled up greater than VCC3 when interfacing to 5V logic. Asserted when one or all of the supplies are below trip thresholds and held (See Datasheet)", 2 GND (power) "Ground.", 3 VCCA (in) "1V Sense, High Impedance Input. If unused,it can be tied to either VCC3 or VCC5/VCC25/VCC18.", 4 VCC5 (power) "5V Sense Input and Power Supply Pin.This pin is used on the LTC1727-5/LTC1728-5 to provide power to the part when the voltage on VCC5 is greater than the voltage on VCC3. Bypass to ground with a >=0.1uF ceramic capacitor.", 5 VCC3 (power) "3.3V Sense Input and Power Supply Pin. (3V Sense Input and Power Supply Pin for LTC1728-1.8.) This pin provides power to the part when the voltage on VCC3 is greater than the voltage on VCC5/VCC25/VCC18.Bypass to ground with (See Datasheet)"

## LTC1728ES5-5#TRM
designator U?
Micropower Precision Triple Supply Monitor, 5-pin SOT23 (S5-5), -40 to 85 degC, Mini Tape and Reel; Manufacturer: Linear Technology; PartNumber: LTC1728ES5-5#TRM; Number of Supplies(#): 3; DatasheetVersion: Rev. B; PackageVersion: Aug-07; PackageReference: S5-5; PackageDescription: 5-Pin Plastic SOT-23, Body 1.625 x 2.90 mm, Pitch 0.95 mm; Supplier 1: Digi-Key; Supplier Part Number 1: LTC1728ES5-5#TRM-ND; Packing: Mini Tape and Reel; RoHS: FALSE; Mounting Technology: Surface Mount; ComponentLink1Description: Manufacturer URL; ComponentLink1URL: http://www.linear.com/; ComponentLink2Description: Datasheet; ComponentLink2URL: http://cds.linear.com/docs/en/datasheet/17278fb.pdf; ComponentLink3Description: Package Specification; ComponentLink3URL: http://cds.linear.com/docs/en/datasheet/17278fb.pdf
footprint LT-S5-5-SOT-23_N (SOT23, 5-Leads, Body 3x1.75mm, Pitch 0.95mm, IPC Medium Density)
footprint LT-S5-5-SOT-23_L (SOT23, 5-Leads, Body 3x1.75mm, Pitch 0.95mm, IPC High Density)
footprint LT-S5-5-SOT-23_M (SOT23, 5-Leads, Body 3x1.75mm, Pitch 0.95mm, IPC Low Density)
pins: 1 ~{RST} (oc) "Reset Logic Output. Active low, opendrain logic output with weak pull-up to VCC3. Can be pulled up greater than VCC3 when interfacing to 5V logic. Asserted when one or all of the supplies are below trip thresholds and held (See Datasheet)", 2 GND (power) "Ground.", 3 VCCA (in) "1V Sense, High Impedance Input. If unused,it can be tied to either VCC3 or VCC5/VCC25/VCC18.", 4 VCC5 (power) "5V Sense Input and Power Supply Pin.This pin is used on the LTC1727-5/LTC1728-5 to provide power to the part when the voltage on VCC5 is greater than the voltage on VCC3. Bypass to ground with a >=0.1uF ceramic capacitor.", 5 VCC3 (power) "3.3V Sense Input and Power Supply Pin. (3V Sense Input and Power Supply Pin for LTC1728-1.8.) This pin provides power to the part when the voltage on VCC3 is greater than the voltage on VCC5/VCC25/VCC18.Bypass to ground with (See Datasheet)"

## LTC1728ES5-5#TRMPBF
designator U?
Micropower Precision Triple Supply Monitor, 5-pin SOT23 (S5-5), -40 to 85 degC, Pb-Free, Mini Tape and Reel; Manufacturer: Linear Technology; PartNumber: LTC1728ES5-5#TRMPBF; Number of Supplies(#): 3; DatasheetVersion: Rev. B; PackageVersion: Aug-07; PackageReference: S5-5; PackageDescription: 5-Pin Plastic SOT-23, Body 1.625 x 2.90 mm, Pitch 0.95 mm; Supplier 1: Digi-Key; Supplier Part Number 1: LTC1728ES5-5#TRMPBFTR-ND; Supplier 2: Digi-Key; Supplier Part Number 2: LTC1728ES5-5#TRMPBFCT-ND; Supplier 3: Digi-Key; Supplier Part Number 3: LTC1728ES5-5#TRMPBFDKR-ND; Packing: Mini Tape and Reel; RoHS: TRUE; Mounting Technology: Surface Mount; ComponentLink1Description: Manufacturer URL; ComponentLink1URL: http://www.linear.com/; ComponentLink2Description: Datasheet; ComponentLink2URL: http://cds.linear.com/docs/en/datasheet/17278fb.pdf; ComponentLink3Description: Package Specification; ComponentLink3URL: http://cds.linear.com/docs/en/datasheet/17278fb.pdf
footprint LT-S5-5-SOT-23_N (SOT23, 5-Leads, Body 3x1.75mm, Pitch 0.95mm, IPC Medium Density)
footprint LT-S5-5-SOT-23_L (SOT23, 5-Leads, Body 3x1.75mm, Pitch 0.95mm, IPC High Density)
footprint LT-S5-5-SOT-23_M (SOT23, 5-Leads, Body 3x1.75mm, Pitch 0.95mm, IPC Low Density)
pins: 1 ~{RST} (oc) "Reset Logic Output. Active low, opendrain logic output with weak pull-up to VCC3. Can be pulled up greater than VCC3 when interfacing to 5V logic. Asserted when one or all of the supplies are below trip thresholds and held (See Datasheet)", 2 GND (power) "Ground.", 3 VCCA (in) "1V Sense, High Impedance Input. If unused,it can be tied to either VCC3 or VCC5/VCC25/VCC18.", 4 VCC5 (power) "5V Sense Input and Power Supply Pin.This pin is used on the LTC1727-5/LTC1728-5 to provide power to the part when the voltage on VCC5 is greater than the voltage on VCC3. Bypass to ground with a >=0.1uF ceramic capacitor.", 5 VCC3 (power) "3.3V Sense Input and Power Supply Pin. (3V Sense Input and Power Supply Pin for LTC1728-1.8.) This pin provides power to the part when the voltage on VCC3 is greater than the voltage on VCC5/VCC25/VCC18.Bypass to ground with (See Datasheet)"

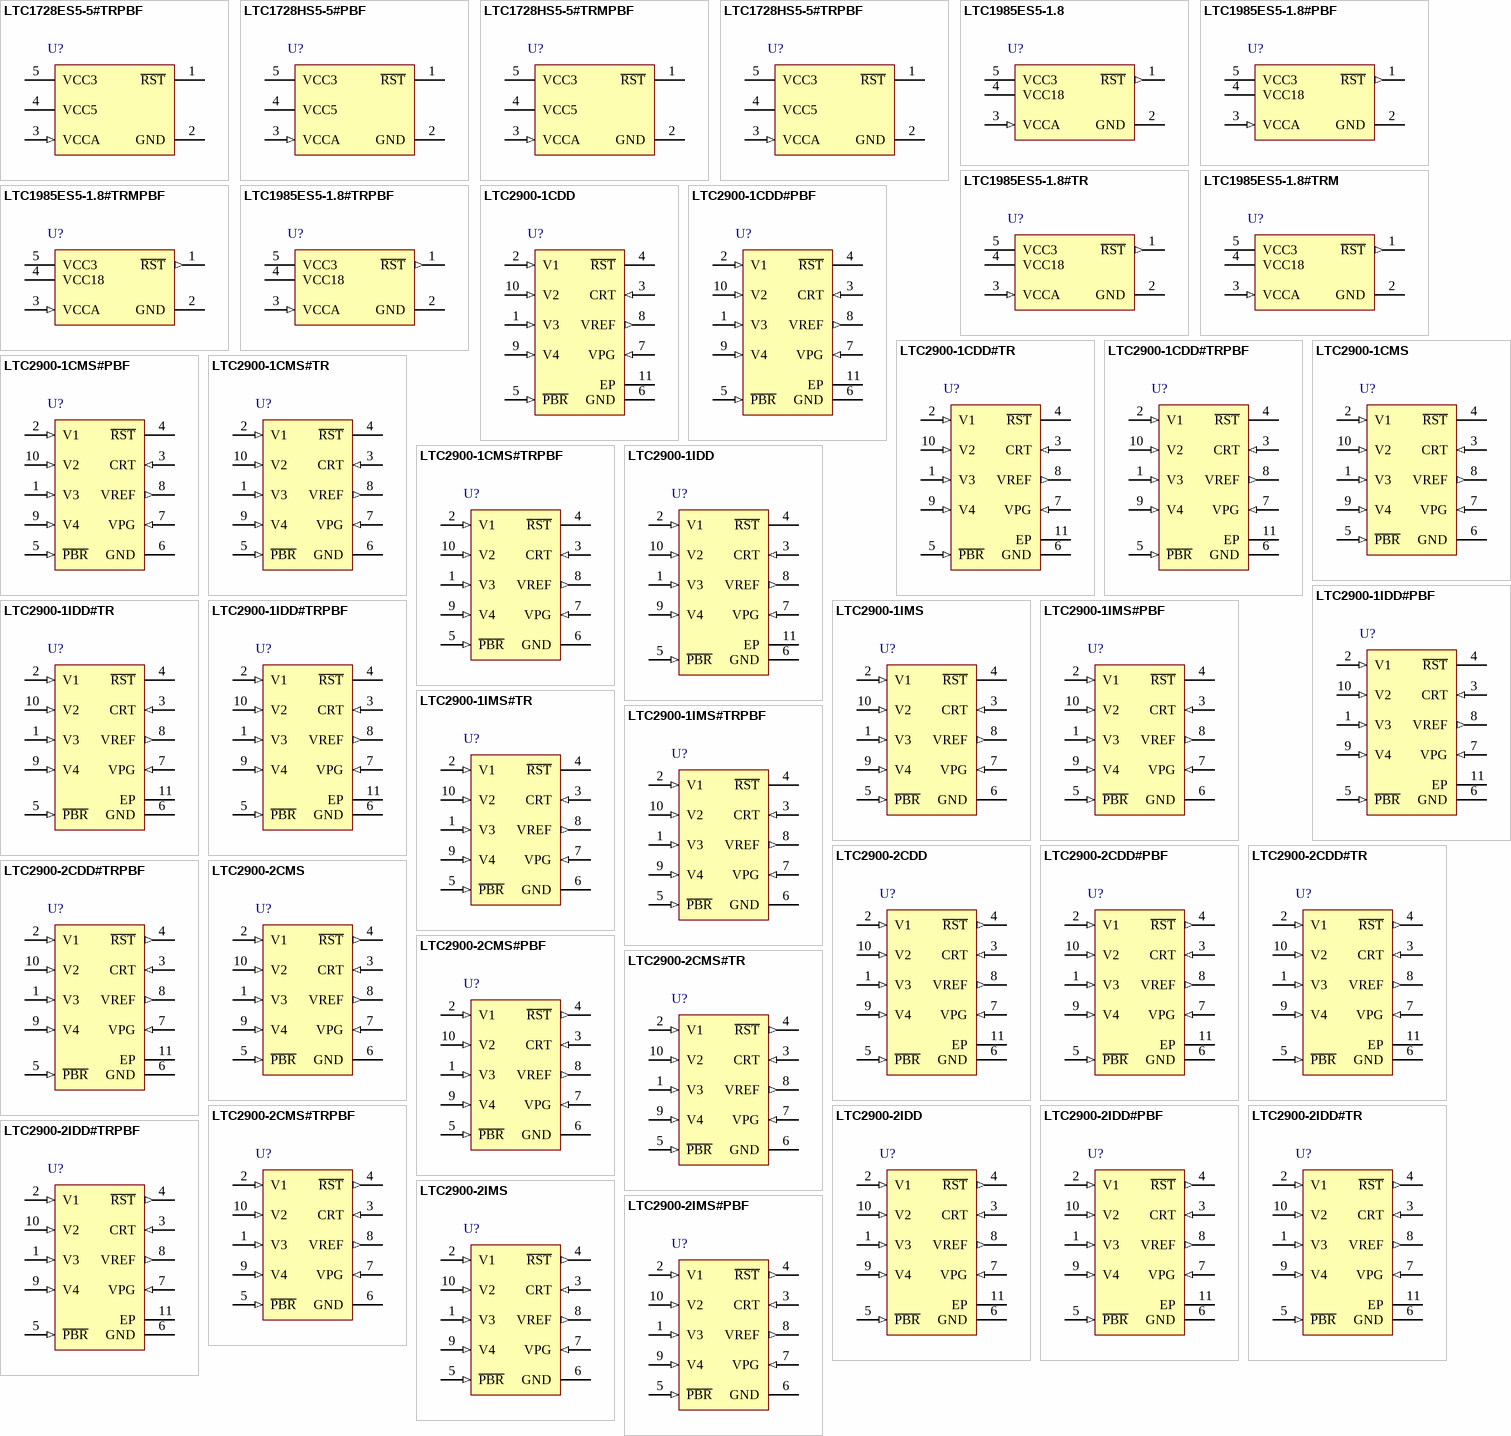
[diagram p8: symbols LTC1728ES5-5#TRPBF to LTC2900-2IMS#PBF]

## LTC1728ES5-5#TRPBF
designator U?
Micropower Precision Triple Supply Monitor, 5-pin SOT23 (S5-5), -40 to 85 degC, Pb-Free, Tape and Reel; Manufacturer: Linear Technology; PartNumber: LTC1728ES5-5#TRPBF; Number of Supplies(#): 3; DatasheetVersion: Rev. B; PackageVersion: Aug-07; PackageReference: S5-5; PackageDescription: 5-Pin Plastic SOT-23, Body 1.625 x 2.90 mm, Pitch 0.95 mm; Supplier 1: Digi-Key; Supplier Part Number 1: LTC1728ES5-5#TRPBF-ND; Supplier 2: Newark; Supplier Part Number 2: 56M3504; Packing: Tape and Reel; RoHS: TRUE; Mounting Technology: Surface Mount; ComponentLink1Description: Manufacturer URL; ComponentLink1URL: http://www.linear.com/; ComponentLink2Description: Datasheet; ComponentLink2URL: http://cds.linear.com/docs/en/datasheet/17278fb.pdf; ComponentLink3Description: Package Specification; ComponentLink3URL: http://cds.linear.com/docs/en/datasheet/17278fb.pdf
footprint LT-S5-5-SOT-23_N (SOT23, 5-Leads, Body 3x1.75mm, Pitch 0.95mm, IPC Medium Density)
footprint LT-S5-5-SOT-23_L (SOT23, 5-Leads, Body 3x1.75mm, Pitch 0.95mm, IPC High Density)
footprint LT-S5-5-SOT-23_M (SOT23, 5-Leads, Body 3x1.75mm, Pitch 0.95mm, IPC Low Density)
pins: 1 ~{RST} (oc) "Reset Logic Output. Active low, opendrain logic output with weak pull-up to VCC3. Can be pulled up greater than VCC3 when interfacing to 5V logic. Asserted when one or all of the supplies are below trip thresholds and held (See Datasheet)", 2 GND (power) "Ground.", 3 VCCA (in) "1V Sense, High Impedance Input. If unused,it can be tied to either VCC3 or VCC5/VCC25/VCC18.", 4 VCC5 (power) "5V Sense Input and Power Supply Pin.This pin is used on the LTC1727-5/LTC1728-5 to provide power to the part when the voltage on VCC5 is greater than the voltage on VCC3. Bypass to ground with a >=0.1uF ceramic capacitor.", 5 VCC3 (power) "3.3V Sense Input and Power Supply Pin. (3V Sense Input and Power Supply Pin for LTC1728-1.8.) This pin provides power to the part when the voltage on VCC3 is greater than the voltage on VCC5/VCC25/VCC18.Bypass to ground with (See Datasheet)"

## LTC1728HS5-5#PBF
designator U?
Micropower Precision Triple Supply Monitor, 5-pin SOT23 (S5-5), -40 to 125 degC, Pb-Free; Manufacturer: Linear Technology; PartNumber: LTC1728HS5-5#PBF; Number of Supplies(#): 3; DatasheetVersion: Rev. B; PackageVersion: Aug-07; PackageReference: S5-5; PackageDescription: 5-Pin Plastic SOT-23, Body 1.625 x 2.90 mm, Pitch 0.95 mm; Supplier 1: Farnell; Supplier Part Number 1: 2295397; Supplier 2: Newark; Supplier Part Number 2: 78T2515; RoHS: TRUE; Mounting Technology: Surface Mount; ComponentLink1Description: Manufacturer URL; ComponentLink1URL: http://www.linear.com/; ComponentLink2Description: Datasheet; ComponentLink2URL: http://cds.linear.com/docs/en/datasheet/17278fb.pdf; ComponentLink3Description: Package Specification; ComponentLink3URL: http://cds.linear.com/docs/en/datasheet/17278fb.pdf
footprint LT-S5-5-SOT-23_N (SOT23, 5-Leads, Body 3x1.75mm, Pitch 0.95mm, IPC Medium Density)
footprint LT-S5-5-SOT-23_L (SOT23, 5-Leads, Body 3x1.75mm, Pitch 0.95mm, IPC High Density)
footprint LT-S5-5-SOT-23_M (SOT23, 5-Leads, Body 3x1.75mm, Pitch 0.95mm, IPC Low Density)
pins: 1 ~{RST} (oc) "Reset Logic Output. Active low, opendrain logic output with weak pull-up to VCC3. Can be pulled up greater than VCC3 when interfacing to 5V logic. Asserted when one or all of the supplies are below trip thresholds and held (See Datasheet)", 2 GND (power) "Ground.", 3 VCCA (in) "1V Sense, High Impedance Input. If unused,it can be tied to either VCC3 or VCC5/VCC25/VCC18.", 4 VCC5 (power) "5V Sense Input and Power Supply Pin.This pin is used on the LTC1727-5/LTC1728-5 to provide power to the part when the voltage on VCC5 is greater than the voltage on VCC3. Bypass to ground with a >=0.1uF ceramic capacitor.", 5 VCC3 (power) "3.3V Sense Input and Power Supply Pin. (3V Sense Input and Power Supply Pin for LTC1728-1.8.) This pin provides power to the part when the voltage on VCC3 is greater than the voltage on VCC5/VCC25/VCC18.Bypass to ground with (See Datasheet)"

## LTC1728HS5-5#TRMPBF
designator U?
Micropower Precision Triple Supply Monitor, 5-pin SOT23 (S5-5), -40 to 125 degC, Pb-Free, Mini Tape and Reel; Manufacturer: Linear Technology; PartNumber: LTC1728HS5-5#TRMPBF; Number of Supplies(#): 3; DatasheetVersion: Rev. B; PackageVersion: Aug-07; PackageReference: S5-5; PackageDescription: 5-Pin Plastic SOT-23, Body 1.625 x 2.90 mm, Pitch 0.95 mm; Supplier 1: Digi-Key; Supplier Part Number 1: LTC1728HS5-5#TRMPBF-ND; Packing: Mini Tape and Reel; RoHS: TRUE; Mounting Technology: Surface Mount; ComponentLink1Description: Manufacturer URL; ComponentLink1URL: http://www.linear.com/; ComponentLink2Description: Datasheet; ComponentLink2URL: http://cds.linear.com/docs/en/datasheet/17278fb.pdf; ComponentLink3Description: Package Specification; ComponentLink3URL: http://cds.linear.com/docs/en/datasheet/17278fb.pdf
footprint LT-S5-5-SOT-23_N (SOT23, 5-Leads, Body 3x1.75mm, Pitch 0.95mm, IPC Medium Density)
footprint LT-S5-5-SOT-23_L (SOT23, 5-Leads, Body 3x1.75mm, Pitch 0.95mm, IPC High Density)
footprint LT-S5-5-SOT-23_M (SOT23, 5-Leads, Body 3x1.75mm, Pitch 0.95mm, IPC Low Density)
pins: 1 ~{RST} (oc) "Reset Logic Output. Active low, opendrain logic output with weak pull-up to VCC3. Can be pulled up greater than VCC3 when interfacing to 5V logic. Asserted when one or all of the supplies are below trip thresholds and held (See Datasheet)", 2 GND (power) "Ground.", 3 VCCA (in) "1V Sense, High Impedance Input. If unused,it can be tied to either VCC3 or VCC5/VCC25/VCC18.", 4 VCC5 (power) "5V Sense Input and Power Supply Pin.This pin is used on the LTC1727-5/LTC1728-5 to provide power to the part when the voltage on VCC5 is greater than the voltage on VCC3. Bypass to ground with a >=0.1uF ceramic capacitor.", 5 VCC3 (power) "3.3V Sense Input and Power Supply Pin. (3V Sense Input and Power Supply Pin for LTC1728-1.8.) This pin provides power to the part when the voltage on VCC3 is greater than the voltage on VCC5/VCC25/VCC18.Bypass to ground with (See Datasheet)"